# EAGLE library part 615032137921 (library 615008185221_Eagle_WR-MJ_rev20b)
WR-MJ Modular Jack Horizontal Shielded Ganged 4 Ports w. LED and EMI Panel Finger 8P8C Tab Up KIND PROPERTIES Quality Class:500 Mating cycles LED:yellow-green General Information Operating Temperature:-40 up to +85 °C Compliance:RoHS Electrical Properties IR 1:1.5 A Working Voltage: 120 V (AC) Withstanding Voltage:1000V (AC) Contact Resistance:20mΩ RISO:500 MΩ Material Properties Insulator MateriaL:PBT Insulator Flammability Rating:UL94 V-0 Color:Black Contact Material:Copper Alloy Contact Plating:Selective Gold Contact Type:Stamped Shielding Material Bronze Shielding Plating:Nickel Packaging Properties Packaging:Tray <https://www.we-online.com/catalog/media/o33146v209%20Family_WR-MJ_615032137921.jpg> Details see: https://www.we-online.com/catalog/en/MJ_HORIZONTAL_SHIELDED_GANGED_4_PORTS_W_LED_AND_EMI_PANEL_FINGER_8P8C_TAB_UP/ Updated by Yingchun,Shan 2020-01-02 2020(C) Würth Elektronik
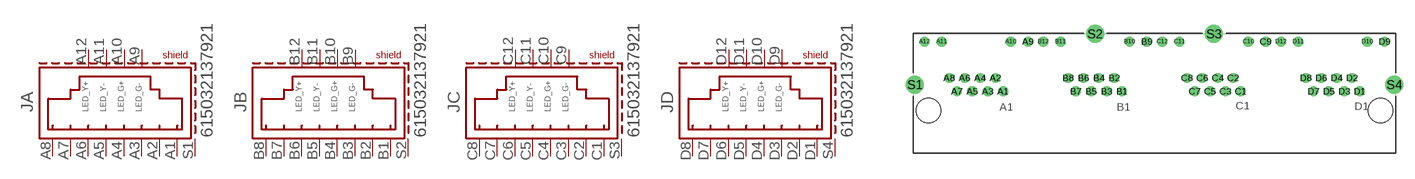
[diagram p75: symbol with the pads of 615032137921; footprint 615032137921]

Designator prefix J; gates A=8P8C_S_LEDYG B=8P8C_S_LEDYG C=8P8C_S_LEDYG D=8P8C_S_LEDYG

## 615032137921 (DATASHEET-URL: https://www.we-online.com/catalog/datasheet/615032137921.pdf; LED: yellow-green; MOUNT: THT; PART-NUMBER: 615032137921; TYPE: Horizontal; VALUE: 615032137921; XPXC: 8P8C)  [615032137921]
A1  A:1  pas
A2  A:2  pas
A3  A:3  pas
A4  A:4  pas
A5  A:5  pas
A6  A:6  pas
A7  A:7  pas
A8  A:8  pas
A9  A:G-  pas
A10  A:G+  pas
A11  A:Y-  pas
A12  A:Y+  pas
B1  B:1  pas
B2  B:2  pas
B3  B:3  pas
B4  B:4  pas
B5  B:5  pas
B6  B:6  pas
B7  B:7  pas
B8  B:8  pas
B9  B:G-  pas
B10  B:G+  pas
B11  B:Y-  pas
B12  B:Y+  pas
C1  C:1  pas
C2  C:2  pas
C3  C:3  pas
C4  C:4  pas
C5  C:5  pas
C6  C:6  pas
C7  C:7  pas
C8  C:8  pas
C9  C:G-  pas
C10  C:G+  pas
C11  C:Y-  pas
C12  C:Y+  pas
D1  D:1  pas
D2  D:2  pas
D3  D:3  pas
D4  D:4  pas
D5  D:5  pas
D6  D:6  pas
D7  D:7  pas
D8  D:8  pas
D9  D:G-  pas
D10  D:G+  pas
D11  D:Y-  pas
D12  D:Y+  pas
S1  A:SHIELD  pas
S2  B:SHIELD  pas
S3  C:SHIELD  pas
S4  D:SHIELD  pas

## Footprint 615032137921 (pad centres in mm)
WR-MJ Modular Jack Horizontal Shielded Ganged 4 Ports w. LED and EMI Panel Finger 8P8C Tab Up, 32 Pins
drill 0.8: A1 -20.055,0.255; A2 -21.075,2.035; A3 -22.095,0.255; A4 -23.115,2.035; A5 -24.135,0.255; A6 -25.155,2.035; A7 -26.175,0.255; A8 -27.195,2.035; A9 -16.765,6.855; A10 -19.055,6.855; A11 -28.195,6.855; A12 -30.485,6.855; B1 -4.305,0.255; B2 -5.325,2.035; B3 -6.345,0.255; B4 -7.365,2.035; B5 -8.385,0.255; B6 -9.405,2.035; B7 -10.425,0.255; B8 -11.445,2.035; B9 -1.015,6.855; B10 -3.305,6.855; B11 -12.445,6.855; B12 -14.735,6.855; C1 11.445,0.255; C2 10.425,2.035; C3 9.405,0.255; C4 8.385,2.035; C5 7.365,0.255; C6 6.345,2.035; C7 5.325,0.255; C8 4.305,2.035; C9 14.735,6.855; C10 12.445,6.855; C11 3.305,6.855; C12 1.015,6.855; D1 27.195,0.255; D2 26.175,2.035; D3 25.155,0.255; D4 24.135,2.035; D5 23.115,0.255; D6 22.095,2.035; D7 21.075,0.255; D8 20.055,2.035; D9 30.485,6.855; D10 28.195,6.855; D11 19.055,6.855; D12 16.765,6.855
drill 1.6: S1 -31.755,1.145; S2 -7.875,7.875; S3 7.875,7.875; S4 31.755,1.145
hole 3.25 at -29.975,-2.285
hole 3.25 at 29.975,-2.285